# Altium footprint library драйверы.PcbLib: 17 footprints (part 1 of 2)
Each footprint in its own frame and in the unit in brackets; x right, y up, seen from the top. Pads: shape width x height; smd on the part's side, far side on the other; paste and mask are expansions set on the pad; w line width, h text height; cw(c..) or ccw(c..) is an arc to the next point about the centre after c.
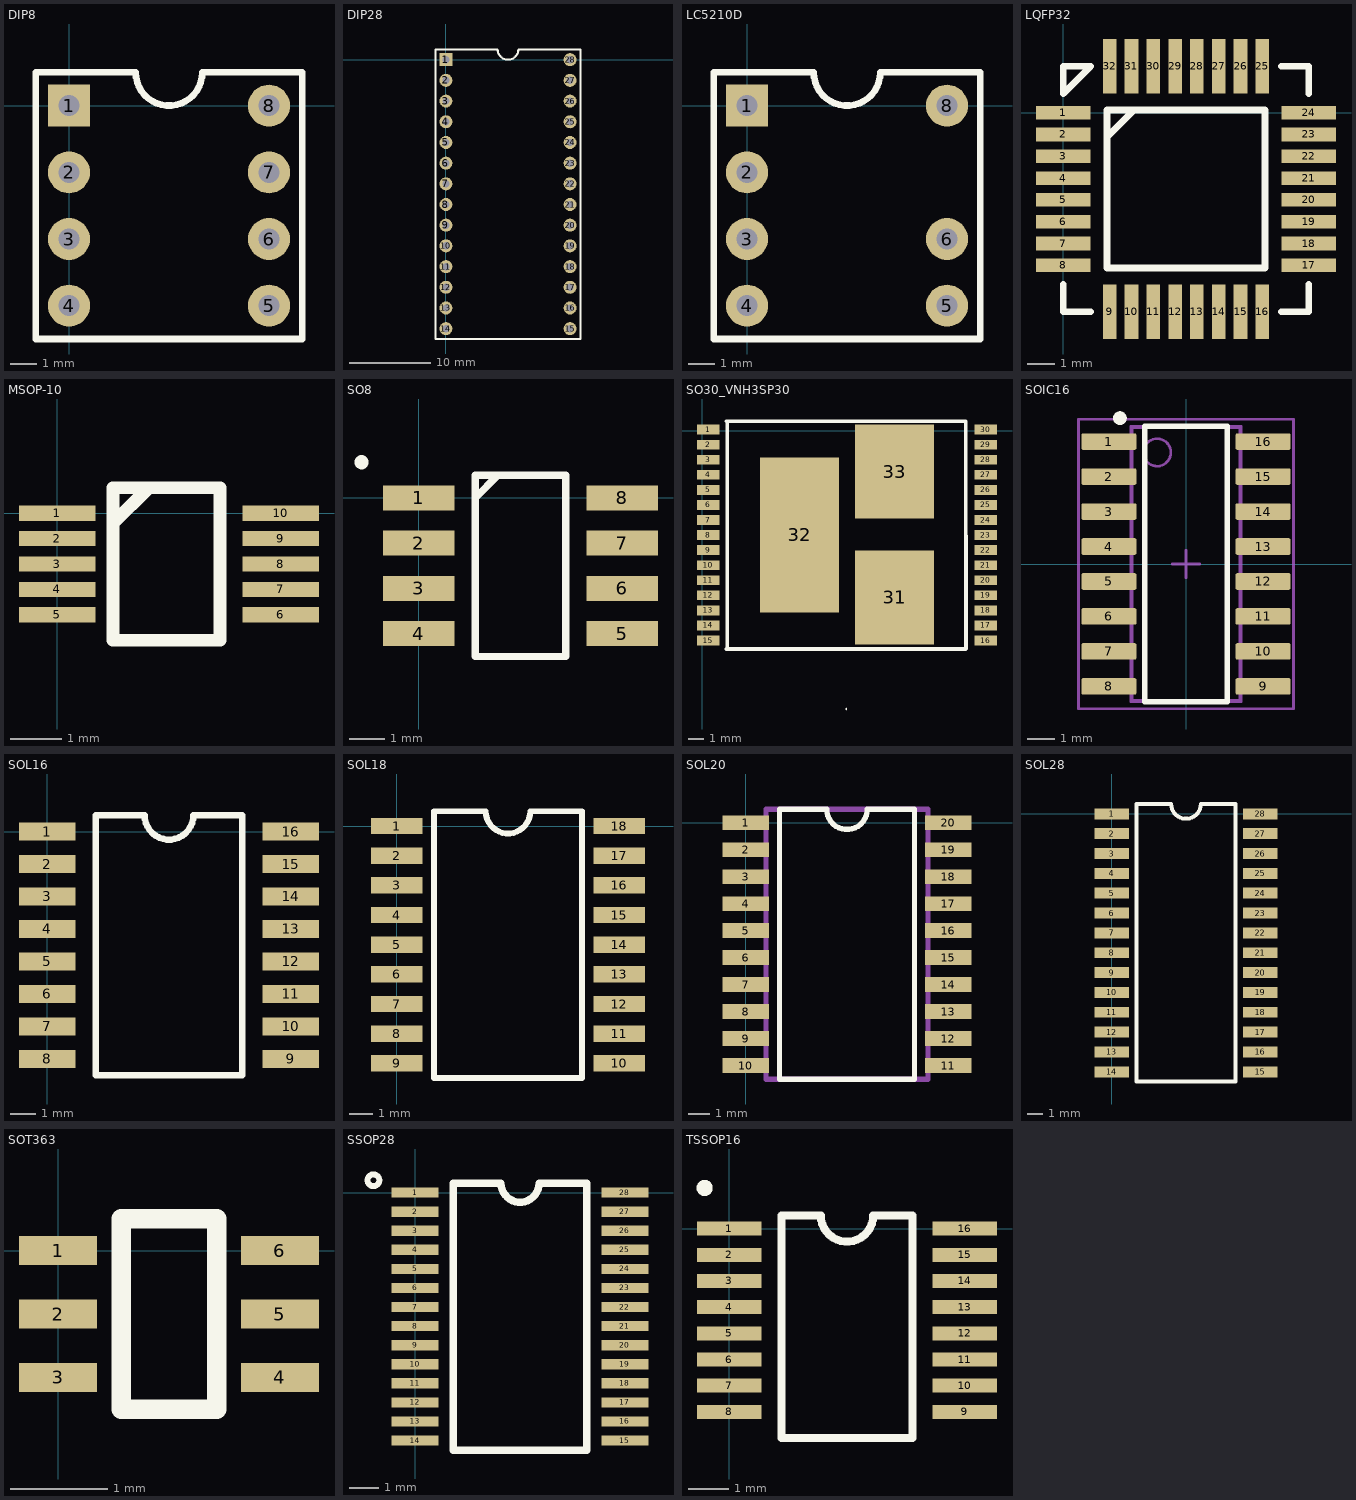
[diagram p0: the footprints below, top view; thin cyan lines are the x and y axes]

## DIP8 [mm]
pads (8):
  rect 1.6x1.6 hole 0.8: 1(0,0)
  round 1.6 hole 0.8: 2(0,-2.54) 3(0,-5.08) 4(0,-7.62) 5(7.62,-7.62) 6(7.62,-5.08) 7(7.62,-2.54) 8(7.62,0)
Top Overlay:
  lines w0.254: -1.27,-8.89 -1.27,1.27 2.54,1.27 ccw(c3.81,1.27) 5.08,1.27 8.89,1.27 8.89,-8.89 -1.27,-8.89

## DIP28 [mm]
pads (28):
  rect 1.6x1.6 hole 0.9: 1(0,0)
  round 1.6 hole 0.9: 2(0,-2.54) 3(0,-5.08) 4(0,-7.62) 5(0,-10.16) 6(0,-12.7) 7(0,-15.24) 8(0,-17.78) 9(0,-20.32) 10(0,-22.86) 11(0,-25.4) 12(0,-27.94) 13(0,-30.48) 14(0,-33.02) 15(15.24,-33.02) 16(15.24,-30.48) 17(15.24,-27.94) 18(15.24,-25.4) 19(15.24,-22.86) 20(15.24,-20.32) 21(15.24,-17.78) 22(15.24,-15.24) 23(15.24,-12.7) 24(15.24,-10.16) 25(15.24,-7.62) 26(15.24,-5.08) 27(15.24,-2.54) 28(15.24,0)
Top Overlay:
  lines w0.254: -1.27,-34.29 16.51,-34.29 16.51,1.27 8.89,1.27 cw(c7.62,1.27) 6.35,1.27 -1.27,1.27 -1.27,-34.29

## LC5210D [mm]
pads (7):
  rect 1.6x1.6 hole 0.8: 1(0,0)
  round 1.6 hole 0.8: 2(0,-2.54) 3(0,-5.08) 4(0,-7.62) 5(7.62,-7.62) 6(7.62,-5.08) 8(7.62,0)
Top Overlay:
  lines w0.254: -1.27,-8.89 8.89,-8.89 8.89,1.27 5.08,1.27 cw(c3.81,1.27) 2.54,1.27 -1.27,1.27 -1.27,-8.89

## LQFP32 [mm]
pads (32):
  rect 2x0.5 smd: 1(0,0) 2(0,-0.8) 3(0,-1.6) 4(0,-2.4) 5(0,-3.2) 6(0,-4) 7(0,-4.8) 8(0,-5.6) 17(9,-5.6) 18(9,-4.8) 19(9,-4) 20(9,-3.2) 21(9,-2.4) 22(9,-1.6) 23(9,-0.8) 24(9,0)
  rect 0.5x2 smd: 9(1.7,-7.3) 10(2.5,-7.3) 11(3.3,-7.3) 12(4.1,-7.3) 13(4.9,-7.3) 14(5.7,-7.3) 15(6.5,-7.3) 16(7.3,-7.3) 25(7.3,1.7) 26(6.5,1.7) 27(5.7,1.7) 28(4.9,1.7) 29(4.1,1.7) 30(3.3,1.7) 31(2.5,1.7) 32(1.7,1.7)
Top Overlay:
  lines w0.254: 0,-6.3 0,-7.3 1,-7.3 ; 1.6,-0.9 2.6,0.1 ; 8,-7.3 9,-7.3 9,-6.3 ; 8,1.7 9,1.7 9,0.7 ; 0,0.7 1,1.7 0,1.7 0,0.7 ; 1.6,-5.7 7.4,-5.7 7.4,0.1 1.6,0.1 1.6,-5.7

## MSOP-10 [mm]
pads (10):
  rect 1.5x0.3 smd: 1(0,0) 2(0,-0.5) 3(0,-1) 4(0,-1.5) 5(0,-2) 6(4.4,-2) 7(4.4,-1.5) 8(4.4,-1) 9(4.4,-0.5) 10(4.4,0)
Top Overlay:
  lines w0.254: 1.1,-0.2 1.8,0.5 ; 1.1,-2.5 3.2,-2.5 3.2,0.5 1.1,0.5 1.1,-2.5

## PCBComponent_1 [mm]

## SO8 [mm]
pads (8):
  rect 2x0.7 smd mask+0.025: 1(0,0) 2(0,-1.27) 3(0,-2.54) 4(0,-3.81) 5(5.715,-3.81) 6(5.715,-2.54) 7(5.715,-1.27) 8(5.715,0)
Top Overlay:
  circle w0.2: c-1.6,1 r0.1
  lines w0.2: 1.587,0 2.222,0.635 ; 1.587,-4.445 1.587,0.635 4.127,0.635 4.127,-4.445 1.587,-4.445
3D body "CircuitWorks-SO-8 (PIC12FXXX).SLDPRT": height 1.6, standoff 0, extent -0.12,-4.36 5.87,0.54

## SO30_VNH3SP30 [mm]
pads (33):
  rect 1.5x0.65 smd: 1(0.398,0.086) 2(0.398,-0.914) 3(0.398,-1.914) 4(0.398,-2.914) 5(0.398,-3.914) 6(0.398,-4.914) 7(0.398,-5.914) 8(0.398,-6.914) 9(0.398,-7.914) 10(0.398,-8.914) 11(0.398,-9.914) 12(0.398,-10.914) 13(0.398,-11.914) 14(0.398,-12.914) 15(0.398,-13.914) 16(18.812,-13.914) 17(18.812,-12.914) 18(18.812,-11.914) 19(18.812,-10.914) 20(18.812,-9.914) 21(18.812,-8.914) 22(18.812,-7.914) 23(18.812,-6.914) 24(18.812,-5.914) 25(18.812,-4.914) 26(18.812,-3.914) 27(18.812,-2.914) 28(18.812,-1.914) 29(18.812,-0.914) 30(18.812,0.086)
  rect 5.25x6.23 smd: 31(12.76,-11.054) 33(12.76,-2.704)
  rect 5.25x10.3 smd: 32(6.46,-6.904)
Top Overlay:
  lines w0.1: 9.56,-18.504 9.56,-18.404
  lines w0.254: 1.59,-14.478 17.49,-14.478 ; 1.59,0.636 17.49,0.636 17.51,-14.454 ; 1.66,-14.454 1.66,0.596

## SOIC16 [mm] "16-Pin Small Outline Integrated Circuit 1.27 mm Pitch, IPC Medium Density"
height 1.75
pads (16):
  rrect20% 2x0.6 smd mask+0.025: 1(-2.8,4.445) 2(-2.8,3.175) 3(-2.8,1.905) 4(-2.8,0.635) 5(-2.8,-0.635) 6(-2.8,-1.905) 7(-2.8,-3.175) 8(-2.8,-4.445) 9(2.8,-4.445) 10(2.8,-3.175) 11(2.8,-1.905) 12(2.8,-0.635) 13(2.8,0.635) 14(2.8,1.905) 15(2.8,3.175) 16(2.8,4.445)
Top Overlay:
  circle w0.25: c-2.4,5.295 r0.125
  lines w0.2: -1.5,-5 -1.5,5 1.5,5 1.5,-5 -1.5,-5
Mechanical 3:
  text ".comment" at 0,0 h1
Mechanical 5:
  lines w0.1: -2,-5 -2,5 2,5 2,-5 -2,-5
  lines w0.2: -2.305,5.268 cw(c-2.4,5.3) -2.3,5.3
  text ".Designator" at -2,5.5 h1
Mechanical 7:
  lines w0.1: -0.5,0 0.5,0 ; 0,-0.5 0,0.5 ; -3.9,-5.25 -3.9,5.25 3.9,5.25 3.9,-5.25 -3.9,-5.25
Mechanical 13:
  circle w0.1: c-1.05,4.05 r0.5
  lines w0.1: -1.95,-4.95 -1.95,4.95 1.95,4.95 1.95,-4.95 -1.95,-4.95
3D body "SOIC127P600X175-16N.stp": height 1.75, standoff 0, extent -3.1,-5 3.1,5

## SOL16 [mm]
pads (16):
  rect 2.2x0.7 smd: 1(0,0) 2(0,-1.27) 3(0,-2.54) 4(0,-3.81) 5(0,-5.08) 6(0,-6.35) 7(0,-7.62) 8(0,-8.89) 9(9.525,-8.89) 10(9.525,-7.62) 11(9.525,-6.35) 12(9.525,-5.08) 13(9.525,-3.81) 14(9.525,-2.54) 15(9.525,-1.27) 16(9.525,0)
Top Overlay:
  lines w0.254: 1.905,-9.525 7.62,-9.525 7.62,0.635 5.715,0.635 cw(c4.763,0.635) 3.81,0.635 1.905,0.635 1.905,-9.525

## SOL18 [mm]
pads (18):
  rect 2.2x0.7 smd: 1(0,0) 2(0,-1.27) 3(0,-2.54) 4(0,-3.81) 5(0,-5.08) 6(0,-6.35) 7(0,-7.62) 8(0,-8.89) 9(0,-10.16) 10(9.525,-10.16) 11(9.525,-8.89) 12(9.525,-7.62) 13(9.525,-6.35) 14(9.525,-5.08) 15(9.525,-3.81) 16(9.525,-2.54) 17(9.525,-1.27) 18(9.525,0)
Top Overlay:
  lines w0.254: 3.746,0.635 1.587,0.635 1.587,-10.795 7.938,-10.795 7.938,0.635 5.715,0.635 cw(c4.763,0.635) 3.81,0.635

## SOL20 [mm]
pads (20):
  rect 2.2x0.7 smd: 1(0,0) 2(0,-1.27) 3(0,-2.54) 4(0,-3.81) 5(0,-5.08) 6(0,-6.35) 7(0,-7.62) 8(0,-8.89) 9(0,-10.16) 10(0,-11.43) 11(9.525,-11.43) 12(9.525,-10.16) 13(9.525,-8.89) 14(9.525,-7.62) 15(9.525,-6.35) 16(9.525,-5.08) 17(9.525,-3.81) 18(9.525,-2.54) 19(9.525,-1.27) 20(9.525,0)
Top Overlay:
  lines w0.25: 3.81,0.635 1.587,0.635 1.587,-12.065 7.938,-12.065 7.938,0.635 5.715,0.635
  lines w0.254: 3.81,0.635 ccw(c4.763,0.635) 5.715,0.635
Mechanical 10:
  lines w0.25: 0.953,-12.065 0.953,0.635 8.572,0.635 8.572,-12.065 0.953,-12.065

## SOL28 [mm]
pads (28):
  rect 2.2x0.7 smd: 1(0,0) 2(0,-1.27) 3(0,-2.54) 4(0,-3.81) 5(0,-5.08) 6(0,-6.35) 7(0,-7.62) 8(0,-8.89) 9(0,-10.16) 10(0,-11.43) 11(0,-12.7) 12(0,-13.97) 13(0,-15.24) 14(0,-16.51) 15(9.525,-16.51) 16(9.525,-15.24) 17(9.525,-13.97) 18(9.525,-12.7) 19(9.525,-11.43) 20(9.525,-10.16) 21(9.525,-8.89) 22(9.525,-7.62) 23(9.525,-6.35) 24(9.525,-5.08) 25(9.525,-3.81) 26(9.525,-2.54) 27(9.525,-1.27) 28(9.525,0)
Top Overlay:
  lines w0.254: 3.746,0.635 1.587,0.635 1.587,-17.145 7.938,-17.145 7.938,0.635 5.715,0.635 cw(c4.763,0.635) 3.81,0.635

## SOT363 [mm]
pads (6):
  rect 0.8x0.3 smd: 1(0,0) 2(0,-0.65) 3(0,-1.3) 4(2.275,-1.3) 5(2.275,-0.65) 6(2.275,0)
Top Overlay:
  lines w0.2: 0.65,-1.625 0.65,0.325 1.625,0.325 1.625,-1.625 0.65,-1.625

## SSOP28 [mm]
pads (28):
  rect 1.6x0.35 smd: 1(0,0) 2(0,-0.65) 3(0,-1.3) 4(0,-1.95) 5(0,-2.6) 6(0,-3.25) 7(0,-3.9) 8(0,-4.55) 9(0,-5.2) 10(0,-5.85) 11(0,-6.5) 12(0,-7.15) 13(0,-7.8) 14(0,-8.45) 15(7.15,-8.45) 16(7.15,-7.8) 17(7.15,-7.15) 18(7.15,-6.5) 19(7.15,-5.85) 20(7.15,-5.2) 21(7.15,-4.55) 22(7.15,-3.9) 23(7.15,-3.25) 24(7.15,-2.6) 25(7.15,-1.95) 26(7.15,-1.3) 27(7.15,-0.65) 28(7.15,0)
Top Overlay:
  circle w0.2: c-1.42,0.42 r0.2
  lines w0.254: 1.3,-8.775 5.85,-8.775 5.85,0.325 4.225,0.325 cw(c3.575,0.325) 2.925,0.325 1.3,0.325 1.3,-8.775

## TSSOP16 [mm]
pads (16):
  rect 1.6x0.35 smd mask+0.025: 1(0,0) 2(0,-0.65) 3(0,-1.3) 4(0,-1.95) 5(0,-2.6) 6(0,-3.25) 7(0,-3.9) 8(0,-4.55) 9(5.85,-4.55) 10(5.85,-3.9) 11(5.85,-3.25) 12(5.85,-2.6) 13(5.85,-1.95) 14(5.85,-1.3) 15(5.85,-0.65) 16(5.85,0)
Top Overlay:
  circle w0.2: c-0.61,1.01 r0.1
  lines w0.2: 1.3,-5.2 1.3,0.325 2.275,0.325 ccw(c2.925,0.325) 3.575,0.325 4.55,0.325 4.55,-5.2 1.3,-5.2
3D body "User Library-TSSOP-16-1.SLDPRT": height 1.1, standoff 0, extent -0.275,-4.775 6.125,0.225